# EAGLE library part 621306284521 (library Header_R_ESP32)
2.00mm SMT Angled Dual Pin Header WR-PHD Manufacturer's datasheet <https://katalog.we-online.com/em/datasheet/621306284521.pdf>
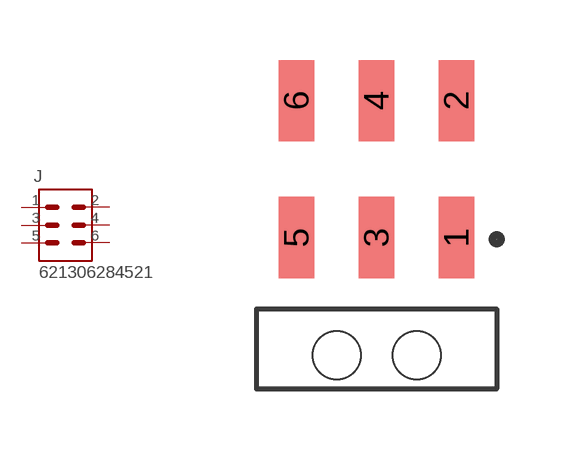
[diagram p15: symbol with the pads of 621306284521; footprint 621306284521]

Designator prefix J

## 621306284521 (CREATED_BY: PCBLayout.com; MANUFACTURER: Wurth Elektronik; MPN: 621306284521)  [621306284521]
1  1  pas
2  2  pas
3  3  pas
4  4  pas
5  5  pas
6  6  pas

## Footprint 621306284521 (pad centres in mm)
smd 0.89 x 2.03: 1 2,-1.71; 2 2,1.71; 3 0,-1.71; 4 0,1.71; 5 -2,-1.71; 6 -2,1.71
hole 1.2 at -1,-4.66
hole 1.2 at 1,-4.66